# EAGLE library part HPH3INDUCTOR (library 111HPH3INDUCTOR)
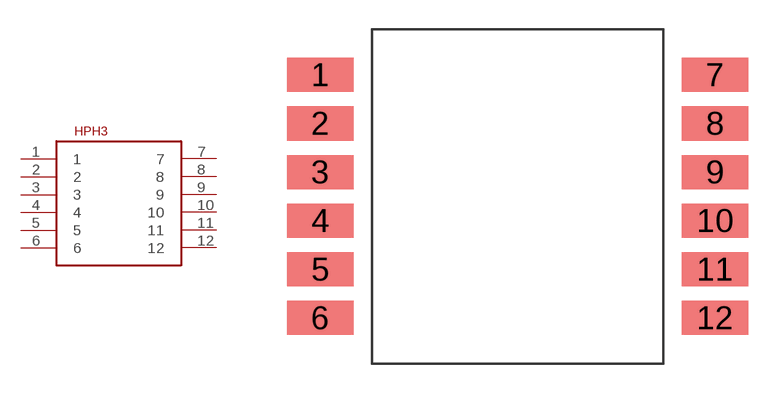
[diagram p0: symbol with the pads of HPH3INDUCTOR; footprint HPH3INDUCTOR]

Designator prefix -

## HPH3INDUCTOR  [HPH3INDUCTOR]
1  1
2  2
3  3
4  4
5  5
6  6
7  7
8  8
9  9
10  10
11  11
12  12

## Footprint HPH3INDUCTOR (pad centres in mm)
smd 3.43 x 1.75: 1 -10.155,6.25; 2 -10.155,3.75; 3 -10.155,1.25; 4 -10.155,-1.25; 5 -10.155,-3.75; 6 -10.155,-6.25; 7 10.155,6.25; 8 10.155,3.75; 9 10.155,1.25; 10 10.155,-1.25; 11 10.155,-3.75; 12 10.155,-6.25